# Altium footprint library Downloads.PcbLib: 1 footprints
Each footprint in its own frame and in the unit in brackets; x right, y up, seen from the top. Pads: shape width x height; smd on the part's side, far side on the other; paste and mask are expansions set on the pad; w line width, h text height; cw(c..) or ccw(c..) is an arc to the next point about the centre after c.
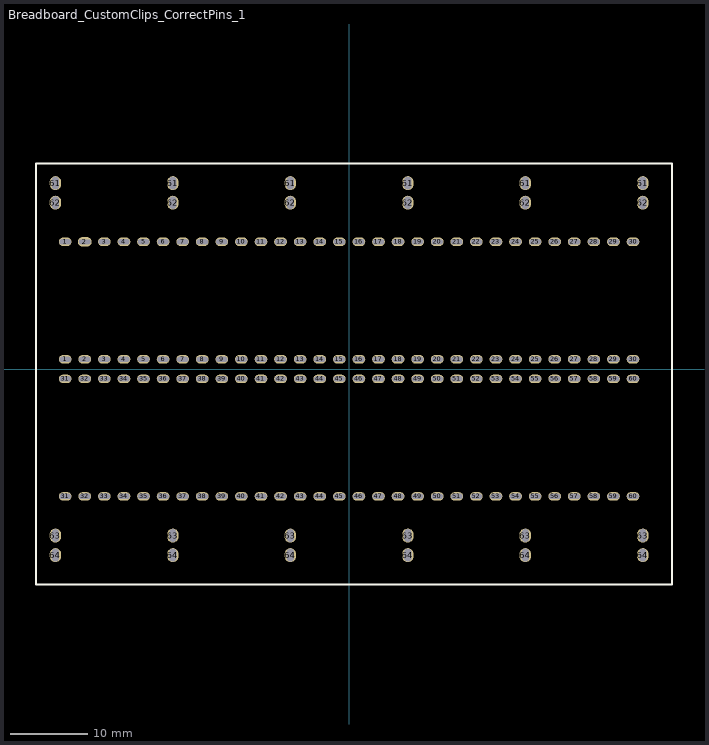
[diagram p0: the footprint, top view; thin cyan lines are the x and y axes]

## Breadboard_CustomClips_CorrectPins_1 [mm]
pads (144):
  rrect100% 1.65x1.1 hole 0.65 slot 1.45 at 0 deg: 1(-36.83,1.27) 1(-36.83,16.51) 2(-34.29,1.27) 3(-31.75,1.27) 3(-31.75,16.51) 4(-29.21,1.27) 4(-29.21,16.51) 5(-26.67,1.27) 5(-26.67,16.51) 6(-24.13,1.27) 6(-24.13,16.51) 7(-21.59,1.27) 7(-21.59,16.51) 8(-19.05,1.27) 8(-19.05,16.51) 9(-16.51,1.27) 9(-16.51,16.51) 10(-13.97,1.27) 10(-13.97,16.51) 11(-11.43,1.27) 11(-11.43,16.51) 12(-8.89,1.27) 12(-8.89,16.51) 13(-6.35,1.27) 13(-6.35,16.51) 14(-3.81,1.27) 14(-3.81,16.51) 15(-1.27,1.27) 15(-1.27,16.51) 16(1.27,1.27) 16(1.27,16.51) 17(3.81,1.27) 17(3.81,16.51) 18(6.35,1.27) 18(6.35,16.51) 19(8.89,1.27) 19(8.89,16.51) 20(11.43,1.27) 20(11.43,16.51) 21(13.97,1.27) 21(13.97,16.51) 22(16.51,1.27) 22(16.51,16.51) 23(19.05,1.27) 23(19.05,16.51) 24(21.59,1.27) 24(21.59,16.51) 25(24.13,1.27) 25(24.13,16.51) 26(26.67,1.27) 26(26.67,16.51) 27(29.21,1.27) 27(29.21,16.51) 28(31.75,1.27) 28(31.75,16.51) 29(34.29,1.27) 29(34.29,16.51) 30(36.83,1.27) 30(36.83,16.51) 31(-36.83,-16.51) 31(-36.83,-1.27) 32(-34.29,-16.51) 32(-34.29,-1.27) 33(-31.75,-16.51) 33(-31.75,-1.27) 34(-29.21,-16.51) 34(-29.21,-1.27) 35(-26.67,-16.51) 35(-26.67,-1.27) 36(-24.13,-16.51) 36(-24.13,-1.27) 37(-21.59,-16.51) 37(-21.59,-1.27) 38(-19.05,-16.51) 38(-19.05,-1.27) 39(-16.51,-16.51) 39(-16.51,-1.27) 40(-13.97,-16.51) 40(-13.97,-1.27) 41(-11.43,-16.51) 41(-11.43,-1.27) 42(-8.89,-16.51) 42(-8.89,-1.27) 43(-6.35,-16.51) 43(-6.35,-1.27) 44(-3.81,-16.51) 44(-3.81,-1.27) 45(-1.27,-16.51) 45(-1.27,-1.27) 46(1.27,-16.51) 46(1.27,-1.27) 47(3.81,-16.51) 47(3.81,-1.27) 48(6.35,-16.51) 48(6.35,-1.27) 49(8.89,-16.51) 49(8.89,-1.27) 50(11.43,-16.51) 50(11.43,-1.27) 51(13.97,-16.51) 51(13.97,-1.27) 52(16.51,-16.51) 52(16.51,-1.27) 53(19.05,-16.51) 53(19.05,-1.27) 54(21.59,-16.51) 54(21.59,-1.27) 55(24.13,-16.51) 55(24.13,-1.27) 56(26.67,-16.51) 56(26.67,-1.27) 57(29.21,-16.51) 57(29.21,-1.27) 58(31.75,-16.51) 58(31.75,-1.27) 59(34.29,-16.51) 59(34.29,-1.27) 60(36.83,-16.51) 60(36.83,-1.27)
  rrect100% 1.8x1.2 hole 0.6 slot 1.5 at 0 deg: 2(-34.29,16.51)
  rrect100% 1.5x1.8 hole 1.6 slot 0.9 at 0 deg: 61(-38.1,24.13) 61(-22.86,24.13) 61(-7.62,24.13) 61(7.62,24.13) 61(22.86,24.13) 61(38.1,24.13) 62(-38.1,21.59) 62(-22.86,21.59) 62(-7.62,21.59) 62(7.62,21.59) 62(22.86,21.59) 62(38.1,21.59) 63(-38.1,-21.59) 63(-22.86,-21.59) 63(-7.62,-21.603) 63(7.62,-21.59) 63(22.86,-21.59) 63(38.1,-21.59) 64(-38.1,-24.13) 64(-22.86,-24.13) 64(-7.62,-24.13) 64(7.62,-24.13) 64(22.86,-24.13) 64(38.1,-24.13)
F.SilkS:
  lines w0.254: -40.64,-27.94 41.91,-27.94 41.91,26.67 -40.64,26.67 -40.64,-27.94